# Altium schematic symbol library Shottky 2x.SchLib: 1 symbol
Pins are listed as number, name and electrical type; pins without a type are passive.

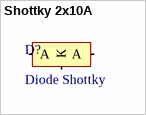
[diagram p0: symbol Shottky 2x10A]

## Shottky 2x10A
designator D?, comment Diode Shottky
Diode Shottky 2x10A; ComponentLink1Description: ChipDip; ComponentLink1URL: https://www.chipdip.ru/product/mbrb20100ctg-ons
footprint D2-PAK (TO-262)
pins: 1 А, 2 К, 3 А